# EAGLE library part Z16F2810VH (library Zilog-ZNEO-v1_0)
ZNEO Z16F Series in PLCC-68 package - no external address bus! Z16F2810VH (128K Flash) ZiLOG, Inc. http://www.zilog.com/
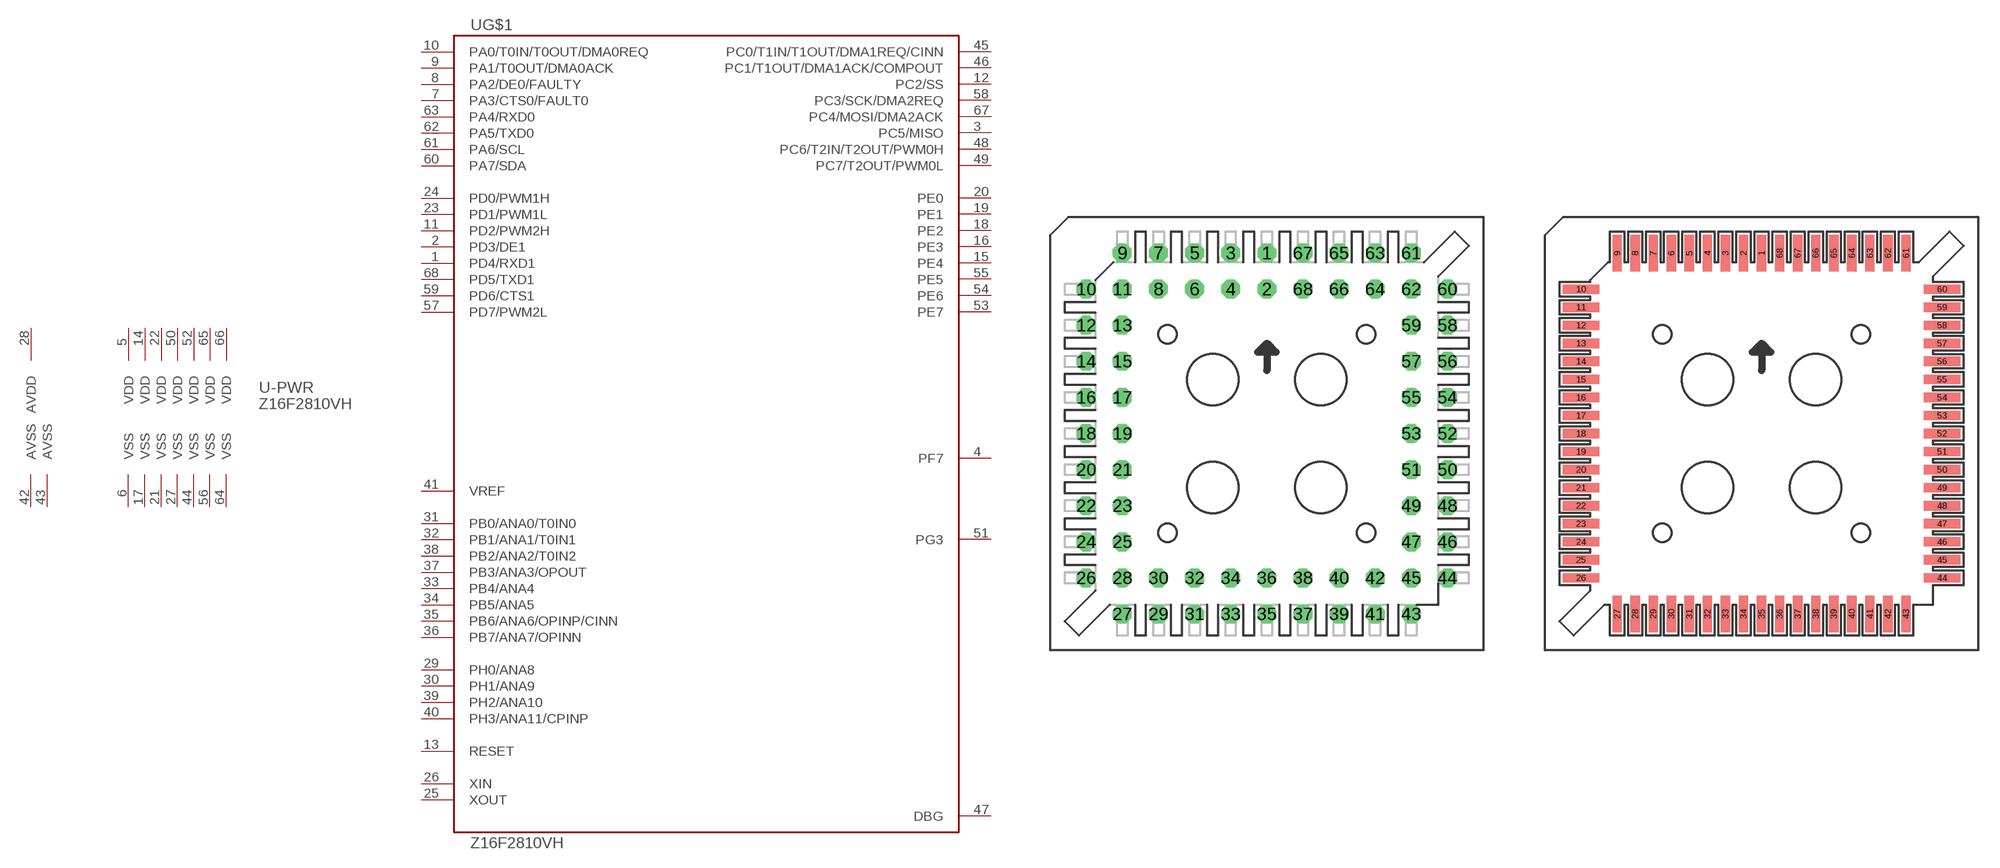
[diagram p3: symbol with the pads of PLCC-S68; footprints PLCC-S68, PLCCSM68]

Designator prefix -; gates G$1=Z16F2810VH -PWR=PWR_68-PIN

## Z16F2810VH-THS  [PLCC-S68]
1  G$1:PD4/RXD1
2  G$1:PD3/DE1
3  G$1:PC5/MISO
4  G$1:PF7
5  -PWR:VDD
6  -PWR:VSS
7  G$1:PA3/CTS0/FAULT0
8  G$1:PA2/DE0/FAULTY
9  G$1:PA1/T0OUT/DMA0ACK
10  G$1:PA0/T0IN/T0OUT/DMA0REQ
11  G$1:PD2/PWM2H
12  G$1:PC2/SS
13  G$1:RESET
14  -PWR:VDD
15  G$1:PE4
16  G$1:PE3
17  -PWR:VSS
18  G$1:PE2
19  G$1:PE1
20  G$1:PE0
21  -PWR:VSS
22  -PWR:VDD
23  G$1:PD1/PWM1L
24  G$1:PD0/PWM1H
25  G$1:XOUT
26  G$1:XIN
27  -PWR:VSS
28  -PWR:AVDD
29  G$1:PH0/ANA8
30  G$1:PH1/ANA9
31  G$1:PB0/ANA0/T0IN0
32  G$1:PB1/ANA1/T0IN1
33  G$1:PB4/ANA4
34  G$1:PB5/ANA5
35  G$1:PB6/ANA6/OPINP/CINN
36  G$1:PB7/ANA7/OPINN
37  G$1:PB3/ANA3/OPOUT
38  G$1:PB2/ANA2/T0IN2
39  G$1:PH2/ANA10
40  G$1:PH3/ANA11/CPINP
41  G$1:VREF
42  -PWR:AVSS
43  -PWR:AVSS
44  -PWR:VSS
45  G$1:PC0/T1IN/T1OUT/DMA1REQ/CINN
46  G$1:PC1/T1OUT/DMA1ACK/COMPOUT
47  G$1:DBG
48  G$1:PC6/T2IN/T2OUT/PWM0H
49  G$1:PC7/T2OUT/PWM0L
50  -PWR:VDD
51  G$1:PG3
52  -PWR:VDD
53  G$1:PE7
54  G$1:PE6
55  G$1:PE5
56  -PWR:VSS
57  G$1:PD7/PWM2L
58  G$1:PC3/SCK/DMA2REQ
59  G$1:PD6/CTS1
60  G$1:PA7/SDA
61  G$1:PA6/SCL
62  G$1:PA5/TXD0
63  G$1:PA4/RXD0
64  -PWR:VSS
65  -PWR:VDD
66  -PWR:VDD
67  G$1:PC4/MOSI/DMA2ACK
68  G$1:PD5/TXD1

## Z16F2810VH-SMS  [PLCCSM68]
Pads as for PLCC-S68

## Footprint PLCC-S68 (pad centres in mm)
PLCC-68 Thru-Hole Socket
drill 0.813 octagon: 1 0,12.7; 2 0,10.16; 3 -2.54,12.7; 4 -2.54,10.16; 5 -5.08,12.7; 6 -5.08,10.16; 7 -7.62,12.7; 8 -7.62,10.16; 9 -10.16,12.7; 10 -12.7,10.16; 11 -10.16,10.16; 12 -12.7,7.62; 13 -10.16,7.62; 14 -12.7,5.08; 15 -10.16,5.08; 16 -12.7,2.54; 17 -10.16,2.54; 18 -12.7,0; 19 -10.16,0; 20 -12.7,-2.54; 21 -10.16,-2.54; 22 -12.7,-5.08; 23 -10.16,-5.08; 24 -12.7,-7.62; 25 -10.16,-7.62; 26 -12.7,-10.16; 27 -10.16,-12.7; 28 -10.16,-10.16; 29 -7.62,-12.7; 30 -7.62,-10.16; 31 -5.08,-12.7; 32 -5.08,-10.16; 33 -2.54,-12.7; 34 -2.54,-10.16; 35 0,-12.7; 36 0,-10.16; 37 2.54,-12.7; 38 2.54,-10.16; 39 5.08,-12.7; 40 5.08,-10.16; 41 7.62,-12.7; 42 7.62,-10.16; 43 10.16,-12.7; 44 12.7,-10.16; 45 10.16,-10.16; 46 12.7,-7.62; 47 10.16,-7.62; 48 12.7,-5.08; 49 10.16,-5.08; 50 12.7,-2.54; 51 10.16,-2.54; 52 12.7,0; 53 10.16,0; 54 12.7,2.54; 55 10.16,2.54; 56 12.7,5.08; 57 10.16,5.08; 58 12.7,7.62; 59 10.16,7.62; 60 12.7,10.16; 61 10.16,12.7; 62 10.16,10.16; 63 7.62,12.7; 64 7.62,10.16; 65 5.08,12.7; 66 5.08,10.16; 67 2.54,12.7; 68 2.54,10.16

## Footprint PLCCSM68 (pad centres in mm)
PLCC-68 Surface-Mount Socket
smd 0.66 x 2.591: 1 0,12.7; 2 -1.27,12.7; 3 -2.54,12.7; 4 -3.81,12.7; 5 -5.08,12.7; 6 -6.35,12.7; 7 -7.62,12.7; 8 -8.89,12.7; 9 -10.16,12.7; 27 -10.16,-12.7; 28 -8.89,-12.7; 29 -7.62,-12.7; 30 -6.35,-12.7; 31 -5.08,-12.7; 32 -3.81,-12.7; 33 -2.54,-12.7; 34 -1.27,-12.7; 35 0,-12.7; 36 1.27,-12.7; 37 2.54,-12.7; 38 3.81,-12.7; 39 5.08,-12.7; 40 6.35,-12.7; 41 7.62,-12.7; 42 8.89,-12.7; 43 10.16,-12.7; 61 10.16,12.7; 62 8.89,12.7; 63 7.62,12.7; 64 6.35,12.7; 65 5.08,12.7; 66 3.81,12.7; 67 2.54,12.7; 68 1.27,12.7
smd 2.591 x 0.66: 10 -12.7,10.16; 11 -12.7,8.89; 12 -12.7,7.62; 13 -12.7,6.35; 14 -12.7,5.08; 15 -12.7,3.81; 16 -12.7,2.54; 17 -12.7,1.27; 18 -12.7,0; 19 -12.7,-1.27; 20 -12.7,-2.54; 21 -12.7,-3.81; 22 -12.7,-5.08; 23 -12.7,-6.35; 24 -12.7,-7.62; 25 -12.7,-8.89; 26 -12.7,-10.16; 44 12.7,-10.16; 45 12.7,-8.89; 46 12.7,-7.62; 47 12.7,-6.35; 48 12.7,-5.08; 49 12.7,-3.81; 50 12.7,-2.54; 51 12.7,-1.27; 52 12.7,0; 53 12.7,1.27; 54 12.7,2.54; 55 12.7,3.81; 56 12.7,5.08; 57 12.7,6.35; 58 12.7,7.62; 59 12.7,8.89; 60 12.7,10.16